# Altium schematic symbol library MF-RESISTORS.SchLib: 98 symbols (part 1 of 2)
Pins are listed as number, name and electrical type; pins without a type are passive.

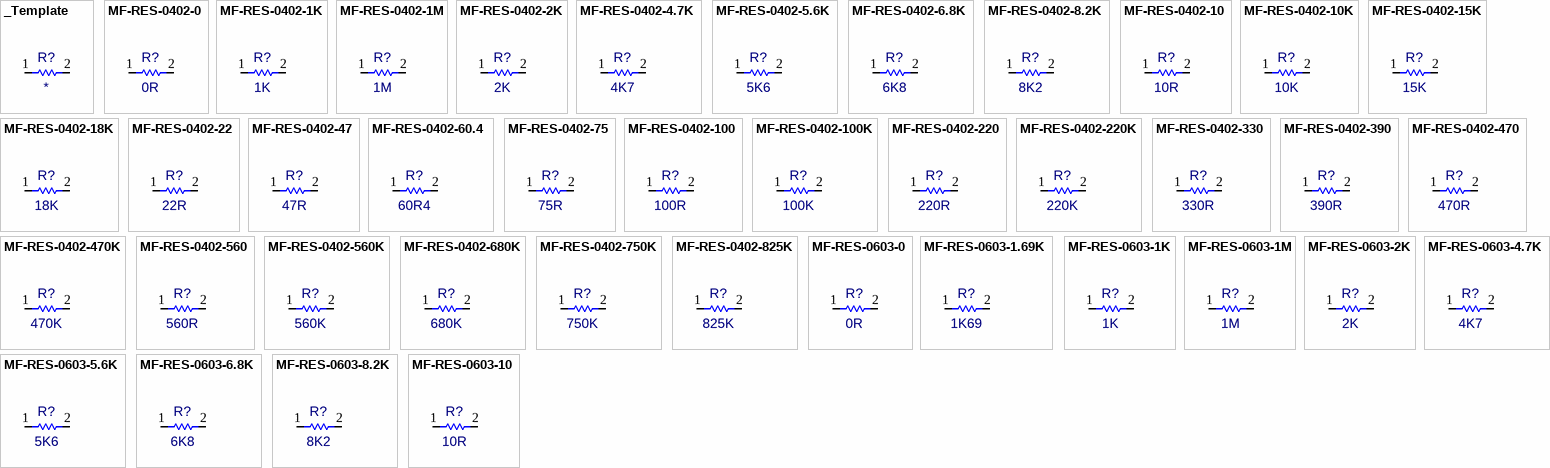
[diagram p0: symbols _Template to MF-RES-0603-10]

## _Template
designator R?
Operating Temperature Range: *; RoHS: Compliant; Package: *; ComponentLink1Description: Datasheet; ComponentLink1URL: *; ComponentLink2Description: Supplier Link 1; ComponentLink2URL: *; Supplier 1: Macrofab; Supplier Part Number 1: *; Manufacturer 1: *; Manufacturer Part Number 1: *; Value: *; Voltage Rating: *; Power Rating: *; Tolerance: *; Type: *; Resistance: *; Mount: SMD
pins: 1, 2

## MF-RES-0402-0
designator R?  Resistance: 0R  (hidden comment: MF-RES-0402-0)
Resistor Thick Film 0402 0 Ohm Jumper; Manufacturer 1: Panasonic; Value: 0; Tolerance: 5%; Operating Temperature Range: - 55 C to + 155 C; RoHS: Compliant; Package: 0402; ComponentLink1Description: Datasheet; ComponentLink1URL: https://s3.amazonaws.com/devpublic1/datasheets/Panasonic_TF_Resistors.pdf; ComponentLink2Description: Supplier Link 1; ComponentLink2URL: https://factory.macrofab.com/part/MF-RES-0402-0; Supplier 1: Macrofab; Supplier Part Number 1: MF-RES-0402-0; Manufacturer Part Number 1: *; Voltage Rating: N/A; Power Rating: N/A; Type: Thick Film Resistors General Purpose; Mount: SMD
footprint R0402 (Chip Resistor, 2-Leads, Body 1.00x0.50mm, IPC Medium Density)
pins: 1, 2

## MF-RES-0402-1K
designator R?  Resistance: 1K  (hidden comment: MF-RES-0402-1K)
Resistor Thick Film 0402 1K Ohm 5% 100mW 50V; Manufacturer 1: Panasonic; Value: 1000; Operating Temperature Range: - 55 C to + 155 C; RoHS: Compliant; Package: 0402; ComponentLink1Description: Datasheet; ComponentLink1URL: https://s3.amazonaws.com/devpublic1/datasheets/Panasonic_TF_Resistors.pdf; ComponentLink2Description: Supplier Link 1; ComponentLink2URL: https://factory.macrofab.com/part/MF-RES-0402-1K; Supplier 1: Macrofab; Supplier Part Number 1: MF-RES-0402-1K; Manufacturer Part Number 1: *; Voltage Rating: 50V; Power Rating: 100mW; Tolerance: 5%; Type: Thick Film Resistors General Purpose; Mount: SMD
footprint R0402 (Chip Resistor, 2-Leads, Body 1.00x0.50mm, IPC Medium Density)
pins: 1, 2

## MF-RES-0402-1M
designator R?  Resistance: 1M  (hidden comment: MF-RES-0402-1M)
Resistor Thick Film 0402 1M Ohm 5% 100mW 50V; Manufacturer 1: Panasonic; Value: 1000000; Operating Temperature Range: - 55 C to + 155 C; RoHS: Compliant; Package: 0402; ComponentLink1Description: Datasheet; ComponentLink1URL: https://s3.amazonaws.com/devpublic1/datasheets/Panasonic_TF_Resistors.pdf; ComponentLink2Description: Supplier Link 1; ComponentLink2URL: https://factory.macrofab.com/part/MF-RES-0402-1M; Supplier 1: Macrofab; Supplier Part Number 1: MF-RES-0402-1M; Voltage Rating: 50V; Power Rating: 100mW; Tolerance: 5%; Type: Thick Film Resistors General Purpose; Mount: SMD
footprint R0402 (Chip Resistor, 2-Leads, Body 1.00x0.50mm, IPC Medium Density)
pins: 1, 2

## MF-RES-0402-2K
designator R?  Resistance: 2K  (hidden comment: MF-RES-0402-2K)
Resistor Thick Film 0402 2K Ohm 5% 100mW 50V; Manufacturer 1: Panasonic; Value: 2000; Operating Temperature Range: - 55 C to + 155 C; RoHS: Compliant; Package: 0402; ComponentLink1Description: Datasheet; ComponentLink1URL: https://s3.amazonaws.com/devpublic1/datasheets/Panasonic_TF_Resistors.pdf; ComponentLink2Description: Supplier Link 1; ComponentLink2URL: https://factory.macrofab.com/part/MF-RES-0402-2K; Supplier 1: Macrofab; Supplier Part Number 1: MF-RES-0402-2K; Manufacturer Part Number 1: *; Voltage Rating: 50V; Power Rating: 100mW; Tolerance: 5%; Type: Thick Film Resistors General Purpose; Mount: SMD
footprint R0402 (Chip Resistor, 2-Leads, Body 1.00x0.50mm, IPC Medium Density)
pins: 1, 2

## MF-RES-0402-4.7K
designator R?  Resistance: 4K7  (hidden comment: MF-RES-0402-4.7K)
Resistor Thick Film 0402 4.7K Ohm 5% 100mW 50V; Manufacturer 1: Panasonic; Value: 4700; Operating Temperature Range: - 55 C to + 155 C; RoHS: Compliant; Package: 0402; ComponentLink1Description: Datasheet; ComponentLink1URL: https://s3.amazonaws.com/devpublic1/datasheets/Panasonic_TF_Resistors.pdf; ComponentLink2Description: Supplier Link 1; ComponentLink2URL: https://factory.macrofab.com/part/MF-RES-0402-4.7K; Supplier 1: Macrofab; Supplier Part Number 1: MF-RES-0402-4.7K; Manufacturer Part Number 1: *; Voltage Rating: 50V; Power Rating: 100mW; Tolerance: 5%; Type: Thick Film Resistors General Purpose; Mount: SMD
footprint R0402 (Chip Resistor, 2-Leads, Body 1.00x0.50mm, IPC Medium Density)
pins: 1, 2

## MF-RES-0402-5.6K
designator R?  Resistance: 5K6  (hidden comment: MF-RES-0402-5.6K)
Resistor Thick Film 0402 5.6K Ohm 5% 100mW 50V; Manufacturer 1: Panasonic; Value: 5600; Operating Temperature Range: - 55 C to + 155 C; RoHS: Compliant; Package: 0402; ComponentLink1Description: Datasheet; ComponentLink1URL: https://s3.amazonaws.com/devpublic1/datasheets/Panasonic_TF_Resistors.pdf; ComponentLink2Description: Supplier Link 1; ComponentLink2URL: https://factory.macrofab.com/part/MF-RES-0402-5.6K; Supplier 1: Macrofab; Supplier Part Number 1: MF-RES-0402-5.6K; Manufacturer Part Number 1: *; Voltage Rating: 50V; Power Rating: 100mW; Tolerance: 5%; Type: Thick Film Resistors General Purpose; Mount: SMD
footprint R0402 (Chip Resistor, 2-Leads, Body 1.00x0.50mm, IPC Medium Density)
pins: 1, 2

## MF-RES-0402-6.8K
designator R?  Resistance: 6K8  (hidden comment: MF-RES-0402-6.8K)
Resistor Thick Film 0402 6.8K Ohm 5% 100mW 50V; Manufacturer 1: Panasonic; Value: 6800; Operating Temperature Range: - 55 C to + 155 C; RoHS: Compliant; Package: 0402; ComponentLink1Description: Datasheet; ComponentLink1URL: https://s3.amazonaws.com/devpublic1/datasheets/Panasonic_TF_Resistors.pdf; ComponentLink2Description: Supplier Link 1; ComponentLink2URL: https://factory.macrofab.com/part/MF-RES-0402-6.8K; Supplier 1: Macrofab; Supplier Part Number 1: MF-RES-0402-6.8K; Manufacturer Part Number 1: *; Voltage Rating: 50V; Power Rating: 100mW; Tolerance: 5%; Type: Thick Film Resistors General Purpose; Mount: SMD
footprint R0402 (Chip Resistor, 2-Leads, Body 1.00x0.50mm, IPC Medium Density)
pins: 1, 2

## MF-RES-0402-8.2K
designator R?  Resistance: 8K2  (hidden comment: MF-RES-0402-8.2K)
Resistor Thick Film 0402 8.2K Ohm 5% 100mW 50V; Manufacturer 1: Panasonic; Value: 8200; Operating Temperature Range: - 55 C to + 155 C; RoHS: Compliant; Package: 0402; ComponentLink1Description: Datasheet; ComponentLink1URL: https://s3.amazonaws.com/devpublic1/datasheets/Panasonic_TF_Resistors.pdf; ComponentLink2Description: Supplier Link 1; ComponentLink2URL: https://factory.macrofab.com/part/MF-RES-0402-8.2K; Supplier 1: Macrofab; Supplier Part Number 1: MF-RES-0402-8.2K; Manufacturer Part Number 1: *; Voltage Rating: 50V; Power Rating: 100mW; Tolerance: 5%; Type: Thick Film Resistors General Purpose; Mount: SMD
footprint R0402 (Chip Resistor, 2-Leads, Body 1.00x0.50mm, IPC Medium Density)
pins: 1, 2

## MF-RES-0402-10
designator R?  Resistance: 10R  (hidden comment: MF-RES-0402-10)
Resistor Thick Film 0402 10 Ohm 5% 100mW 50V; Manufacturer 1: Panasonic; Value: 10; Operating Temperature Range: - 55 C to + 155 C; RoHS: Compliant; Package: 0402; ComponentLink1Description: Datasheet; ComponentLink1URL: https://s3.amazonaws.com/devpublic1/datasheets/Panasonic_TF_Resistors.pdf; ComponentLink2Description: Supplier Link 1; ComponentLink2URL: https://factory.macrofab.com/part/MF-RES-0402-10; Supplier 1: Macrofab; Supplier Part Number 1: MF-RES-0402-10; Manufacturer Part Number 1: *; Voltage Rating: 50V; Power Rating: 100mW; Tolerance: 5%; Type: Thick Film Resistors General Purpose; Mount: SMD
footprint R0402 (Chip Resistor, 2-Leads, Body 1.00x0.50mm, IPC Medium Density)
pins: 1, 2

## MF-RES-0402-10K
designator R?  Resistance: 10K  (hidden comment: MF-RES-0402-10K)
Resistor Thick Film 0402 10K Ohm 5% 100mW 50V; Manufacturer 1: Panasonic; Value: 10000; Operating Temperature Range: - 55 C to + 155 C; RoHS: Compliant; Package: 0402; ComponentLink1Description: Datasheet; ComponentLink1URL: https://s3.amazonaws.com/devpublic1/datasheets/Panasonic_TF_Resistors.pdf; ComponentLink2Description: Supplier Link 1; ComponentLink2URL: https://factory.macrofab.com/part/MF-RES-0402-10K; Supplier 1: Macrofab; Supplier Part Number 1: MF-RES-0402-10K; Manufacturer Part Number 1: *; Voltage Rating: 50V; Power Rating: 100mW; Tolerance: 5%; Type: Thick Film Resistors General Purpose; Mount: SMD
footprint R0402 (Chip Resistor, 2-Leads, Body 1.00x0.50mm, IPC Medium Density)
pins: 1, 2

## MF-RES-0402-15K
designator R?  Resistance: 15K  (hidden comment: MF-RES-0402-15K)
Resistor Thick Film 0402 15K Ohm 5% 100mW 50V; Manufacturer 1: Panasonic; Value: 15000; Operating Temperature Range: - 55 C to + 155 C; RoHS: Compliant; Package: 0402; ComponentLink1Description: Datasheet; ComponentLink1URL: https://s3.amazonaws.com/devpublic1/datasheets/Panasonic_TF_Resistors.pdf; ComponentLink2Description: Supplier Link 1; ComponentLink2URL: https://factory.macrofab.com/part/MF-RES-0402-15K; Supplier 1: Macrofab; Supplier Part Number 1: MF-RES-0402-15K; Manufacturer Part Number 1: *; Voltage Rating: 50V; Power Rating: 100mW; Tolerance: 5%; Type: Thick Film Resistors General Purpose; Mount: SMD
footprint R0402 (Chip Resistor, 2-Leads, Body 1.00x0.50mm, IPC Medium Density)
pins: 1, 2

## MF-RES-0402-18K
designator R?  Resistance: 18K  (hidden comment: MF-RES-0402-18K)
Resistor Thick Film 0402 18K Ohm 5% 100mW 50V; Manufacturer 1: Panasonic; Value: 18000; Operating Temperature Range: - 55 C to + 155 C; RoHS: Compliant; Package: 0402; ComponentLink1Description: Datasheet; ComponentLink1URL: https://s3.amazonaws.com/devpublic1/datasheets/Panasonic_TF_Resistors.pdf; ComponentLink2Description: Supplier Link 1; ComponentLink2URL: https://factory.macrofab.com/part/MF-RES-0402-18K; Supplier 1: Macrofab; Supplier Part Number 1: MF-RES-0402-18K; Manufacturer Part Number 1: *; Voltage Rating: 50V; Power Rating: 100mW; Tolerance: 5%; Type: Thick Film Resistors General Purpose; Mount: SMD
footprint R0402 (Chip Resistor, 2-Leads, Body 1.00x0.50mm, IPC Medium Density)
pins: 1, 2

## MF-RES-0402-22
designator R?  Resistance: 22R  (hidden comment: MF-RES-0402-22)
Resistor Thick Film 0402 22 Ohm 5% 100mW 50V; Manufacturer 1: Panasonic; Value: 22; Operating Temperature Range: - 55 C to + 155 C; RoHS: Compliant; Package: 0402; ComponentLink1Description: Datasheet; ComponentLink1URL: https://s3.amazonaws.com/devpublic1/datasheets/Panasonic_TF_Resistors.pdf; ComponentLink2Description: Supplier Link 1; ComponentLink2URL: https://factory.macrofab.com/part/MF-RES-0402-22; Supplier 1: Macrofab; Supplier Part Number 1: MF-RES-0402-22; Manufacturer Part Number 1: *; Voltage Rating: 50V; Power Rating: 100mW; Tolerance: 5%; Type: Thick Film Resistors General Purpose; Mount: SMD
footprint R0402 (Chip Resistor, 2-Leads, Body 1.00x0.50mm, IPC Medium Density)
pins: 1, 2

## MF-RES-0402-47
designator R?  Resistance: 47R  (hidden comment: MF-RES-0402-47)
Resistor Thick Film 0402 47 Ohm 5% 100mW 50V; Manufacturer 1: Panasonic; Value: 47; Operating Temperature Range: - 55 C to + 155 C; RoHS: Compliant; Package: 0402; ComponentLink1Description: Datasheet; ComponentLink1URL: https://s3.amazonaws.com/devpublic1/datasheets/Panasonic_TF_Resistors.pdf; ComponentLink2Description: Supplier Link 1; ComponentLink2URL: https://factory.macrofab.com/part/MF-RES-0402-47; Supplier 1: Macrofab; Supplier Part Number 1: MF-RES-0402-47; Manufacturer Part Number 1: *; Voltage Rating: 50V; Power Rating: 100mW; Tolerance: 5%; Type: Thick Film Resistors General Purpose; Mount: SMD
footprint R0402 (Chip Resistor, 2-Leads, Body 1.00x0.50mm, IPC Medium Density)
pins: 1, 2

## MF-RES-0402-60.4
designator R?  Resistance: 60R4  (hidden comment: MF-RES-0402-60.4)
Resistor Thick Film 0402 60.4 Ohm 5% 100mW 50V; Manufacturer 1: Panasonic; Value: 60.4; Operating Temperature Range: - 55 C to + 155 C; RoHS: Compliant; Package: 0402; ComponentLink1Description: Datasheet; ComponentLink1URL: https://s3.amazonaws.com/devpublic1/datasheets/Panasonic_TF_Resistors.pdf; ComponentLink2Description: Supplier Link 1; ComponentLink2URL: https://factory.macrofab.com/part/MF-RES-0402-60.4; Supplier 1: Macrofab; Supplier Part Number 1: MF-RES-0402-60.4; Manufacturer Part Number 1: *; Voltage Rating: 50V; Power Rating: 100mW; Tolerance: 5%; Type: Thick Film Resistors General Purpose; Mount: SMD
footprint R0402 (Chip Resistor, 2-Leads, Body 1.00x0.50mm, IPC Medium Density)
pins: 1, 2

## MF-RES-0402-75
designator R?  Resistance: 75R  (hidden comment: MF-RES-0402-75)
Resistor Thick Film 0402 75 Ohm 5% 100mW 50V; Manufacturer 1: Panasonic; Value: 75; Operating Temperature Range: - 55 C to + 155 C; RoHS: Compliant; Package: 0402; ComponentLink1Description: Datasheet; ComponentLink1URL: https://s3.amazonaws.com/devpublic1/datasheets/Panasonic_TF_Resistors.pdf; ComponentLink2Description: Supplier Link 1; ComponentLink2URL: https://factory.macrofab.com/part/MF-RES-0402-75; Supplier 1: Macrofab; Supplier Part Number 1: MF-RES-0402-75; Manufacturer Part Number 1: *; Voltage Rating: 50V; Power Rating: 100mW; Tolerance: 5%; Type: Thick Film Resistors General Purpose; Mount: SMD
footprint R0402 (Chip Resistor, 2-Leads, Body 1.00x0.50mm, IPC Medium Density)
pins: 1, 2

## MF-RES-0402-100
designator R?  Resistance: 100R  (hidden comment: MF-RES-0402-100)
Resistor Thick Film 0402 100 Ohm 5% 100mW 50V; Manufacturer 1: Panasonic; Value: 100; Operating Temperature Range: - 55 C to + 155 C; RoHS: Compliant; Package: 0402; ComponentLink1Description: Datasheet; ComponentLink1URL: https://s3.amazonaws.com/devpublic1/datasheets/Panasonic_TF_Resistors.pdf; ComponentLink2Description: Supplier Link 1; ComponentLink2URL: https://factory.macrofab.com/part/MF-RES-0402-100; Supplier 1: Macrofab; Supplier Part Number 1: MF-RES-0402-100; Manufacturer Part Number 1: *; Voltage Rating: 50V; Power Rating: 100mW; Tolerance: 5%; Type: Thick Film Resistors General Purpose; Mount: SMD
footprint R0402 (Chip Resistor, 2-Leads, Body 1.00x0.50mm, IPC Medium Density)
pins: 1, 2

## MF-RES-0402-100K
designator R?  Resistance: 100K  (hidden comment: MF-RES-0402-100K)
Resistor Thick Film 0402 100K Ohm 5% 100mW 50V; Manufacturer 1: Panasonic; Value: 100000; Operating Temperature Range: - 55 C to + 155 C; RoHS: Compliant; Package: 0402; ComponentLink1Description: Datasheet; ComponentLink1URL: https://s3.amazonaws.com/devpublic1/datasheets/Panasonic_TF_Resistors.pdf; ComponentLink2Description: Supplier Link 1; ComponentLink2URL: https://factory.macrofab.com/part/MF-RES-0402-100K; Supplier 1: Macrofab; Supplier Part Number 1: MF-RES-0402-100K; Manufacturer Part Number 1: *; Voltage Rating: 50V; Power Rating: 100mW; Tolerance: 5%; Type: Thick Film Resistors General Purpose; Mount: SMD
footprint R0402 (Chip Resistor, 2-Leads, Body 1.00x0.50mm, IPC Medium Density)
pins: 1, 2

## MF-RES-0402-220
designator R?  Resistance: 220R  (hidden comment: MF-RES-0402-220)
Resistor Thick Film 0402 220 Ohm 5% 100mW 50V; Manufacturer 1: Panasonic; Value: 220; Operating Temperature Range: - 55 C to + 155 C; RoHS: Compliant; Package: 0402; ComponentLink1Description: Datasheet; ComponentLink1URL: https://s3.amazonaws.com/devpublic1/datasheets/Panasonic_TF_Resistors.pdf; ComponentLink2Description: Supplier Link 1; ComponentLink2URL: https://factory.macrofab.com/part/MF-RES-0402-220; Supplier 1: Macrofab; Supplier Part Number 1: MF-RES-0402-220; Manufacturer Part Number 1: *; Voltage Rating: 50V; Power Rating: 100mW; Tolerance: 5%; Type: Thick Film Resistors General Purpose; Mount: SMD
footprint R0402 (Chip Resistor, 2-Leads, Body 1.00x0.50mm, IPC Medium Density)
pins: 1, 2

## MF-RES-0402-220K
designator R?  Resistance: 220K  (hidden comment: MF-RES-0402-220K)
Resistor Thick Film 0402 220K Ohm 5% 100mW 50V; Manufacturer 1: Panasonic; Value: 220000; Operating Temperature Range: - 55 C to + 155 C; RoHS: Compliant; Package: 0402; ComponentLink1Description: Datasheet; ComponentLink1URL: https://s3.amazonaws.com/devpublic1/datasheets/Panasonic_TF_Resistors.pdf; ComponentLink2Description: Supplier Link 1; ComponentLink2URL: https://factory.macrofab.com/part/MF-RES-0402-220K; Supplier 1: Macrofab; Supplier Part Number 1: MF-RES-0402-220K; Manufacturer Part Number 1: *; Voltage Rating: 50V; Power Rating: 100mW; Tolerance: 5%; Type: Thick Film Resistors General Purpose; Mount: SMD
footprint R0402 (Chip Resistor, 2-Leads, Body 1.00x0.50mm, IPC Medium Density)
pins: 1, 2

## MF-RES-0402-330
designator R?  Resistance: 330R  (hidden comment: MF-RES-0402-330)
Resistor Thick Film 0402 330 Ohm 5% 100mW 50V; Manufacturer 1: Panasonic; Value: 330; Operating Temperature Range: - 55 C to + 155 C; RoHS: Compliant; Package: 0402; ComponentLink1Description: Datasheet; ComponentLink1URL: https://s3.amazonaws.com/devpublic1/datasheets/Panasonic_TF_Resistors.pdf; ComponentLink2Description: Supplier Link 1; ComponentLink2URL: https://factory.macrofab.com/part/MF-RES-0402-330; Supplier 1: Macrofab; Supplier Part Number 1: MF-RES-0402-330; Manufacturer Part Number 1: *; Voltage Rating: 50V; Power Rating: 100mW; Tolerance: 5%; Type: Thick Film Resistors General Purpose; Mount: SMD
footprint R0402 (Chip Resistor, 2-Leads, Body 1.00x0.50mm, IPC Medium Density)
pins: 1, 2

## MF-RES-0402-390
designator R?  Resistance: 390R  (hidden comment: MF-RES-0402-390)
Resistor Thick Film 0402 390 Ohm 5% 100mW 50V; Manufacturer 1: Panasonic; Value: 390; Operating Temperature Range: - 55 C to + 155 C; RoHS: Compliant; Package: 0402; ComponentLink1Description: Datasheet; ComponentLink1URL: https://s3.amazonaws.com/devpublic1/datasheets/Panasonic_TF_Resistors.pdf; ComponentLink2Description: Supplier Link 1; ComponentLink2URL: https://factory.macrofab.com/part/MF-RES-0402-390; Supplier 1: Macrofab; Supplier Part Number 1: MF-RES-0402-390; Manufacturer Part Number 1: *; Voltage Rating: 50V; Power Rating: 100mW; Tolerance: 5%; Type: Thick Film Resistors General Purpose; Mount: SMD
footprint R0402 (Chip Resistor, 2-Leads, Body 1.00x0.50mm, IPC Medium Density)
pins: 1, 2

## MF-RES-0402-470
designator R?  Resistance: 470R  (hidden comment: MF-RES-0402-470)
Resistor Thick Film 0402 470 Ohm 5% 100mW 50V; Manufacturer 1: Panasonic; Value: 470; Operating Temperature Range: - 55 C to + 155 C; RoHS: Compliant; Package: 0402; ComponentLink1Description: Datasheet; ComponentLink1URL: https://s3.amazonaws.com/devpublic1/datasheets/Panasonic_TF_Resistors.pdf; ComponentLink2Description: Supplier Link 1; ComponentLink2URL: https://factory.macrofab.com/part/MF-RES-0402-470; Supplier 1: Macrofab; Supplier Part Number 1: MF-RES-0402-470; Manufacturer Part Number 1: *; Voltage Rating: 50V; Power Rating: 100mW; Tolerance: 5%; Type: Thick Film Resistors General Purpose; Mount: SMD
footprint R0402 (Chip Resistor, 2-Leads, Body 1.00x0.50mm, IPC Medium Density)
pins: 1, 2

## MF-RES-0402-470K
designator R?  Resistance: 470K  (hidden comment: MF-RES-0402-470K)
Resistor Thick Film 0402 470K Ohm 5% 100mW 50V; Manufacturer 1: Panasonic; Value: 470000; Operating Temperature Range: - 55 C to + 155 C; RoHS: Compliant; Package: 0402; ComponentLink1Description: Datasheet; ComponentLink1URL: https://s3.amazonaws.com/devpublic1/datasheets/Panasonic_TF_Resistors.pdf; ComponentLink2Description: Supplier Link 1; ComponentLink2URL: https://factory.macrofab.com/part/MF-RES-0402-470K; Supplier 1: Macrofab; Supplier Part Number 1: MF-RES-0402-470K; Manufacturer Part Number 1: *; Voltage Rating: 50V; Power Rating: 100mW; Tolerance: 5%; Type: Thick Film Resistors General Purpose; Mount: SMD
footprint R0402 (Chip Resistor, 2-Leads, Body 1.00x0.50mm, IPC Medium Density)
pins: 1, 2

## MF-RES-0402-560
designator R?  Resistance: 560R  (hidden comment: MF-RES-0402-560)
Resistor Thick Film 0402 560 Ohm 5% 100mW 50V; Manufacturer 1: Panasonic; Value: 560; Operating Temperature Range: - 55 C to + 155 C; RoHS: Compliant; Package: 0402; ComponentLink1Description: Datasheet; ComponentLink1URL: https://s3.amazonaws.com/devpublic1/datasheets/Panasonic_TF_Resistors.pdf; ComponentLink2Description: Supplier Link 1; ComponentLink2URL: https://factory.macrofab.com/part/MF-RES-0402-560; Supplier 1: Macrofab; Supplier Part Number 1: MF-RES-0402-560; Manufacturer Part Number 1: *; Voltage Rating: 50V; Power Rating: 100mW; Tolerance: 5%; Type: Thick Film Resistors General Purpose; Mount: SMD
footprint R0402 (Chip Resistor, 2-Leads, Body 1.00x0.50mm, IPC Medium Density)
pins: 1, 2

## MF-RES-0402-560K
designator R?  Resistance: 560K  (hidden comment: MF-RES-0402-560K)
Resistor Thick Film 0402 560K Ohm 5% 100mW 50V; Manufacturer 1: Panasonic; Value: 560000; Operating Temperature Range: - 55 C to + 155 C; RoHS: Compliant; Package: 0402; ComponentLink1Description: Datasheet; ComponentLink1URL: https://s3.amazonaws.com/devpublic1/datasheets/Panasonic_TF_Resistors.pdf; ComponentLink2Description: Supplier Link 1; ComponentLink2URL: https://factory.macrofab.com/part/MF-RES-0402-560K; Supplier 1: Macrofab; Supplier Part Number 1: MF-RES-0402-560K; Manufacturer Part Number 1: *; Voltage Rating: 50V; Power Rating: 100mW; Tolerance: 5%; Type: Thick Film Resistors General Purpose; Mount: SMD
footprint R0402 (Chip Resistor, 2-Leads, Body 1.00x0.50mm, IPC Medium Density)
pins: 1, 2

## MF-RES-0402-680K
designator R?  Resistance: 680K  (hidden comment: MF-RES-0402-680K)
Resistor Thick Film 0402 680K Ohm 5% 100mW 50V; Manufacturer 1: Panasonic; Value: 680000; Operating Temperature Range: - 55 C to + 155 C; RoHS: Compliant; Package: 0402; ComponentLink1Description: Datasheet; ComponentLink1URL: https://s3.amazonaws.com/devpublic1/datasheets/Panasonic_TF_Resistors.pdf; ComponentLink2Description: Supplier Link 1; ComponentLink2URL: https://factory.macrofab.com/part/MF-RES-0402-680K; Supplier 1: Macrofab; Supplier Part Number 1: MF-RES-0402-680K; Manufacturer Part Number 1: *; Voltage Rating: 50V; Power Rating: 100mW; Tolerance: 5%; Type: Thick Film Resistors General Purpose; Mount: SMD
footprint R0402 (Chip Resistor, 2-Leads, Body 1.00x0.50mm, IPC Medium Density)
pins: 1, 2

## MF-RES-0402-750K
designator R?  Resistance: 750K  (hidden comment: MF-RES-0402-750K)
Resistor Thick Film 0402 750K Ohm 5% 100mW 50V; Manufacturer 1: Panasonic; Value: 750000; Operating Temperature Range: - 55 C to + 155 C; RoHS: Compliant; Package: 0402; ComponentLink1Description: Datasheet; ComponentLink1URL: https://s3.amazonaws.com/devpublic1/datasheets/Panasonic_TF_Resistors.pdf; ComponentLink2Description: Supplier Link 1; ComponentLink2URL: https://factory.macrofab.com/part/MF-RES-0402-750K; Supplier 1: Macrofab; Supplier Part Number 1: MF-RES-0402-750K; Manufacturer Part Number 1: *; Voltage Rating: 50V; Power Rating: 100mW; Tolerance: 5%; Type: Thick Film Resistors General Purpose; Mount: SMD
footprint R0402 (Chip Resistor, 2-Leads, Body 1.00x0.50mm, IPC Medium Density)
pins: 1, 2

## MF-RES-0402-825K
designator R?  Resistance: 825K  (hidden comment: MF-RES-0402-825K)
Resistor Thick Film 0402 825K Ohm 1% 100mW 50V; Manufacturer 1: Panasonic; Value: 825000; Tolerance: 5%; Operating Temperature Range: - 55 C to + 155 C; RoHS: Compliant; Package: 0402; ComponentLink1Description: Datasheet; ComponentLink1URL: https://s3.amazonaws.com/devpublic1/datasheets/Panasonic_PTF_Resistors.pdf; ComponentLink2Description: Supplier Link 1; ComponentLink2URL: https://factory.macrofab.com/part/MF-RES-0402-825K; Supplier 1: Macrofab; Supplier Part Number 1: MF-RES-0402-825K; Manufacturer Part Number 1: *; Voltage Rating: 50V; Power Rating: 100mW; Type: Thick Film Resistors General Purpose; Mount: SMD
footprint R0402 (Chip Resistor, 2-Leads, Body 1.00x0.50mm, IPC Medium Density)
pins: 1, 2

## MF-RES-0603-0
designator R?  Resistance: 0R  (hidden comment: MF-RES-0603-0)
Resistor Thick Film 0603 0 Ohm Jumper; Manufacturer 1: Panasonic; Value: 0; Operating Temperature Range: - 55 C to + 155 C; RoHS: Compliant; Package: 0603; ComponentLink1Description: Datasheet; ComponentLink1URL: https://s3.amazonaws.com/devpublic1/datasheets/Panasonic_TF_Resistors.pdf; ComponentLink2Description: Supplier Link 1; ComponentLink2URL: https://factory.macrofab.com/part/MF-RES-0603-0; Supplier 1: Macrofab; Supplier Part Number 1: MF-RES-0603-0; Manufacturer Part Number 1: *; Voltage Rating: N/A; Power Rating: N/A; Tolerance: N/A; Type: Thick Film Resistors General Purpose; Mount: SMD
footprint R0603 (Chip Resistor, 2-Leads, Body 1.60x0.85mm, IPC Medium Density)
pins: 1, 2

## MF-RES-0603-1.69K
designator R?  Resistance: 1K69  (hidden comment: MF-RES-0603-1.69K)
Resistor Thick Film 0603 1.69K Ohm 1% 100mW 75V; Manufacturer 1: Panasonic; Value: 1690; Operating Temperature Range: - 55 C to + 155 C; RoHS: Compliant; Package: 0603; ComponentLink1Description: Datasheet; ComponentLink1URL: https://s3.amazonaws.com/devpublic1/datasheets/Panasonic_TF_Resistors.pdf; ComponentLink2Description: Supplier Link 1; ComponentLink2URL: https://factory.macrofab.com/part/MF-RES-0603-1.69K; Supplier 1: Macrofab; Supplier Part Number 1: MF-RES-0603-1.69K; Manufacturer Part Number 1: *; Voltage Rating: 75V; Power Rating: 100mW; Tolerance: 1%; Type: Thick Film Resistors General Purpose; Mount: SMD
footprint R0603 (Chip Resistor, 2-Leads, Body 1.60x0.85mm, IPC Medium Density)
pins: 1, 2

## MF-RES-0603-1K
designator R?  Resistance: 1K  (hidden comment: MF-RES-0603-1K)
Resistor Thick Film 0603 1K Ohm 5% 100mW 75V; Manufacturer 1: Panasonic; Value: 1000; Operating Temperature Range: - 55 C to + 155 C; RoHS: Compliant; Package: 0603; ComponentLink1Description: Datasheet; ComponentLink1URL: https://s3.amazonaws.com/devpublic1/datasheets/Panasonic_TF_Resistors.pdf; ComponentLink2Description: Supplier Link 1; ComponentLink2URL: https://factory.macrofab.com/part/MF-RES-0603-1K; Supplier 1: Macrofab; Supplier Part Number 1: MF-RES-0603-1K; Manufacturer Part Number 1: *; Voltage Rating: 75V; Power Rating: 100mW; Tolerance: 5%; Type: Thick Film Resistors General Purpose; Mount: SMD
footprint R0603 (Chip Resistor, 2-Leads, Body 1.60x0.85mm, IPC Medium Density)
pins: 1, 2

## MF-RES-0603-1M
designator R?  Resistance: 1M  (hidden comment: MF-RES-0603-1M)
Resistor Thick Film 0603 1M Ohm 5% 100mW 75V; Manufacturer 1: Panasonic; Value: 1000000; Operating Temperature Range: - 55 C to + 155 C; RoHS: Compliant; Package: 0603; ComponentLink1Description: Datasheet; ComponentLink1URL: https://s3.amazonaws.com/devpublic1/datasheets/Panasonic_TF_Resistors.pdf; ComponentLink2Description: Supplier Link 1; ComponentLink2URL: https://factory.macrofab.com/part/MF-RES-0603-1M; Supplier 1: Macrofab; Supplier Part Number 1: MF-RES-0603-1M; Manufacturer Part Number 1: *; Voltage Rating: 75V; Power Rating: 100mW; Tolerance: 5%; Type: Thick Film Resistors General Purpose; Mount: SMD
footprint R0603 (Chip Resistor, 2-Leads, Body 1.60x0.85mm, IPC Medium Density)
pins: 1, 2

## MF-RES-0603-2K
designator R?  Resistance: 2K  (hidden comment: MF-RES-0603-2K)
Resistor Thick Film 0603 2K Ohm 1% 1/10W 50V; Manufacturer 1: Panasonic; Value: 2000; Voltage Rating: 75V; Power Rating: 100mW; Tolerance: 5%; Operating Temperature Range: - 55 C to + 155 C; RoHS: Compliant; Package: 0603; ComponentLink1Description: Datasheet; ComponentLink1URL: https://s3.amazonaws.com/devpublic1/datasheets/Panasonic_TF_Resistors.pdf; ComponentLink2Description: Supplier Link 1; ComponentLink2URL: https://factory.macrofab.com/part/MF-RES-0603-2K; Supplier 1: Macrofab; Supplier Part Number 1: MF-RES-0603-2K; Manufacturer Part Number 1: *; Type: Thick Film Resistors General Purpose; Mount: SMD
footprint R0603 (Chip Resistor, 2-Leads, Body 1.60x0.85mm, IPC Medium Density)
pins: 1, 2

## MF-RES-0603-4.7K
designator R?  Resistance: 4K7  (hidden comment: MF-RES-0603-4.7K)
Resistor Thick Film 0603 4.7K Ohm 5% 100mW 75V; Manufacturer 1: Panasonic; Value: 4700; Operating Temperature Range: - 55 C to + 155 C; RoHS: Compliant; Package: 0603; ComponentLink1Description: Datasheet; ComponentLink1URL: https://s3.amazonaws.com/devpublic1/datasheets/Panasonic_TF_Resistors.pdf; ComponentLink2Description: Supplier Link 1; ComponentLink2URL: https://factory.macrofab.com/part/MF-RES-0603-4.7K; Supplier 1: Macrofab; Supplier Part Number 1: MF-RES-0603-4.7K; Manufacturer Part Number 1: *; Voltage Rating: 75V; Power Rating: 100mW; Tolerance: 5%; Type: Thick Film Resistors General Purpose; Mount: SMD
footprint R0603 (Chip Resistor, 2-Leads, Body 1.60x0.85mm, IPC Medium Density)
pins: 1, 2

## MF-RES-0603-5.6K
designator R?  Resistance: 5K6  (hidden comment: MF-RES-0603-5.6K)
Resistor Thick Film 0603 5.6K Ohm 5% 100mW 75V; Manufacturer 1: Panasonic; Value: 5600; Operating Temperature Range: - 55 C to + 155 C; RoHS: Compliant; Package: 0603; ComponentLink1Description: Datasheet; ComponentLink1URL: https://s3.amazonaws.com/devpublic1/datasheets/Panasonic_TF_Resistors.pdf; ComponentLink2Description: Supplier Link 1; ComponentLink2URL: https://factory.macrofab.com/part/MF-RES-0603-5.6K; Supplier 1: Macrofab; Supplier Part Number 1: MF-RES-0603-5.6K; Manufacturer Part Number 1: *; Voltage Rating: 75V; Power Rating: 100mW; Tolerance: 5%; Type: Thick Film Resistors General Purpose; Mount: SMD
footprint R0603 (Chip Resistor, 2-Leads, Body 1.60x0.85mm, IPC Medium Density)
pins: 1, 2

## MF-RES-0603-6.8K
designator R?  Resistance: 6K8  (hidden comment: MF-RES-0603-6.8K)
Resistor Thick Film 0603 6.8K Ohm 5% 100mW 75V; Manufacturer 1: Panasonic; Value: 6800; Operating Temperature Range: - 55 C to + 155 C; RoHS: Compliant; Package: 0603; ComponentLink1Description: Datasheet; ComponentLink1URL: https://s3.amazonaws.com/devpublic1/datasheets/Panasonic_TF_Resistors.pdf; ComponentLink2Description: Supplier Link 1; ComponentLink2URL: https://factory.macrofab.com/part/MF-RES-0603-6.8K; Supplier 1: Macrofab; Supplier Part Number 1: MF-RES-0603-6.8K; Manufacturer Part Number 1: *; Voltage Rating: 75V; Power Rating: 100mW; Tolerance: 5%; Type: Thick Film Resistors General Purpose; Mount: SMD
footprint R0603 (Chip Resistor, 2-Leads, Body 1.60x0.85mm, IPC Medium Density)
pins: 1, 2

## MF-RES-0603-8.2K
designator R?  Resistance: 8K2  (hidden comment: MF-RES-0603-8.2K)
Resistor Thick Film 0603 8.2K Ohm 5% 100mW 75V; Manufacturer 1: Panasonic; Value: 8200; Operating Temperature Range: - 55 C to + 155 C; RoHS: Compliant; Package: 0603; ComponentLink1Description: Datasheet; ComponentLink1URL: https://s3.amazonaws.com/devpublic1/datasheets/Panasonic_TF_Resistors.pdf; ComponentLink2Description: Supplier Link 1; ComponentLink2URL: https://factory.macrofab.com/part/MF-RES-0603-8.2K; Supplier 1: Macrofab; Supplier Part Number 1: MF-RES-0603-8.2K; Manufacturer Part Number 1: *; Voltage Rating: 75V; Power Rating: 100mW; Tolerance: 5%; Type: Thick Film Resistors General Purpose; Mount: SMD
footprint R0603 (Chip Resistor, 2-Leads, Body 1.60x0.85mm, IPC Medium Density)
pins: 1, 2

## MF-RES-0603-10
designator R?  Resistance: 10R  (hidden comment: MF-RES-0603-10)
Resistor Thick Film 0603 10 Ohm 5% 100mW 75V; Manufacturer 1: Panasonic; Value: 10; Operating Temperature Range: - 55 C to + 155 C; RoHS: Compliant; Package: 0603; ComponentLink1Description: Datasheet; ComponentLink1URL: https://s3.amazonaws.com/devpublic1/datasheets/Panasonic_TF_Resistors.pdf; ComponentLink2Description: Supplier Link 1; ComponentLink2URL: https://factory.macrofab.com/part/MF-RES-0603-10; Supplier 1: Macrofab; Supplier Part Number 1: MF-RES-0603-10; Manufacturer Part Number 1: *; Voltage Rating: 75V; Power Rating: 100mW; Tolerance: 5%; Type: Thick Film Resistors General Purpose; Mount: SMD
footprint R0603 (Chip Resistor, 2-Leads, Body 1.60x0.85mm, IPC Medium Density)
pins: 1, 2

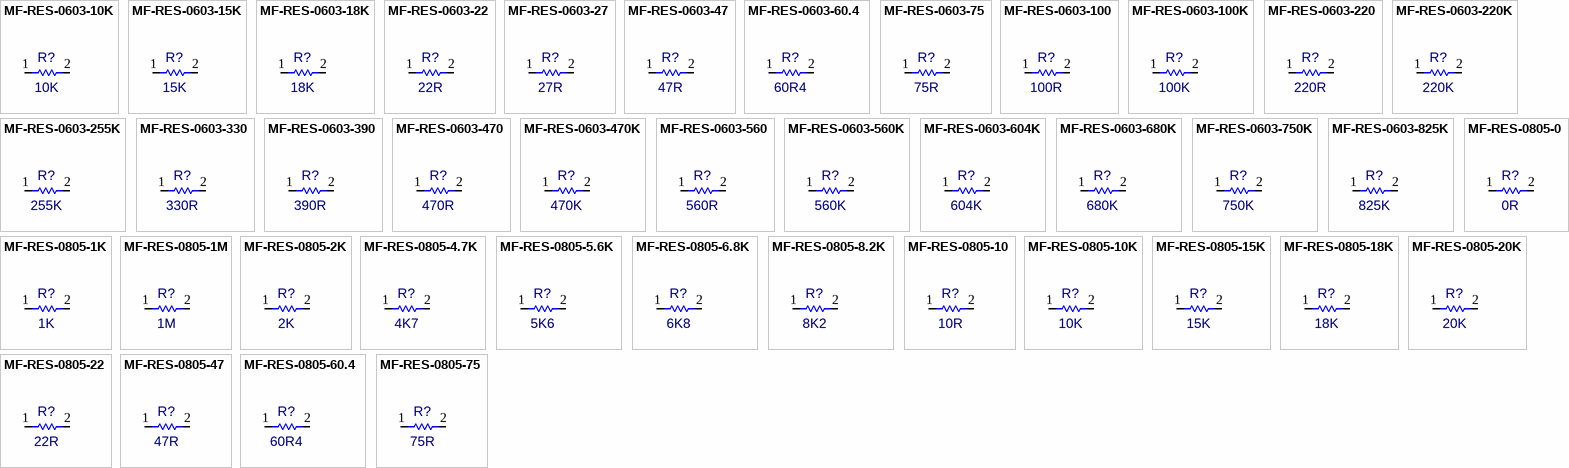
[diagram p1: symbols MF-RES-0603-10K to MF-RES-0805-75]

## MF-RES-0603-10K
designator R?  Resistance: 10K  (hidden comment: MF-RES-0603-10K)
Resistor Thick Film 0603 10K Ohm 5% 100mW 75V; Manufacturer 1: Panasonic; Value: 10000; Operating Temperature Range: - 55 C to + 155 C; RoHS: Compliant; Package: 0603; ComponentLink1Description: Datasheet; ComponentLink1URL: https://s3.amazonaws.com/devpublic1/datasheets/Panasonic_TF_Resistors.pdf; ComponentLink2Description: Supplier Link 1; ComponentLink2URL: https://factory.macrofab.com/part/MF-RES-0603-10K; Supplier 1: Macrofab; Supplier Part Number 1: MF-RES-0603-10K; Manufacturer Part Number 1: *; Voltage Rating: 75V; Power Rating: 100mW; Tolerance: 5%; Type: Thick Film Resistors General Purpose; Mount: SMD
footprint R0603 (Chip Resistor, 2-Leads, Body 1.60x0.85mm, IPC Medium Density)
pins: 1, 2

## MF-RES-0603-15K
designator R?  Resistance: 15K  (hidden comment: MF-RES-0603-15K)
Resistor Thick Film 0603 15K Ohm 5% 100mW 75V; Manufacturer 1: Panasonic; Value: 15000; Operating Temperature Range: - 55 C to + 155 C; RoHS: Compliant; Package: 0603; ComponentLink1Description: Datasheet; ComponentLink1URL: https://s3.amazonaws.com/devpublic1/datasheets/Panasonic_TF_Resistors.pdf; ComponentLink2Description: Supplier Link 1; ComponentLink2URL: https://factory.macrofab.com/part/MF-RES-0603-15K; Supplier 1: Macrofab; Supplier Part Number 1: MF-RES-0603-15K; Manufacturer Part Number 1: *; Voltage Rating: 75V; Power Rating: 100mW; Tolerance: 5%; Type: Thick Film Resistors General Purpose; Mount: SMD
footprint R0603 (Chip Resistor, 2-Leads, Body 1.60x0.85mm, IPC Medium Density)
pins: 1, 2

## MF-RES-0603-18K
designator R?  Resistance: 18K  (hidden comment: MF-RES-0603-18K)
Resistor Thick Film 0603 18K Ohm 5% 100mW 75V; Manufacturer 1: Panasonic; Value: 18000; Operating Temperature Range: - 55 C to + 155 C; RoHS: Compliant; Package: 0603; ComponentLink1Description: Datasheet; ComponentLink1URL: https://s3.amazonaws.com/devpublic1/datasheets/Panasonic_TF_Resistors.pdf; ComponentLink2Description: Supplier Link 1; ComponentLink2URL: https://factory.macrofab.com/part/MF-RES-0603-18K; Supplier 1: Macrofab; Supplier Part Number 1: MF-RES-0603-18K; Manufacturer Part Number 1: *; Voltage Rating: 75V; Power Rating: 100mW; Tolerance: 5%; Type: Thick Film Resistors General Purpose; Mount: SMD
footprint R0603 (Chip Resistor, 2-Leads, Body 1.60x0.85mm, IPC Medium Density)
pins: 1, 2

## MF-RES-0603-22
designator R?  Resistance: 22R  (hidden comment: MF-RES-0603-22)
Resistor Thick Film 0603 22 Ohm 5% 100mW 75V; Manufacturer 1: Panasonic; Value: 22; Operating Temperature Range: - 55 C to + 155 C; RoHS: Compliant; Package: 0603; ComponentLink1Description: Datasheet; ComponentLink1URL: https://s3.amazonaws.com/devpublic1/datasheets/Panasonic_TF_Resistors.pdf; ComponentLink2Description: Supplier Link 1; ComponentLink2URL: https://factory.macrofab.com/part/MF-RES-0603-22; Supplier 1: Macrofab; Supplier Part Number 1: MF-RES-0603-22; Manufacturer Part Number 1: *; Voltage Rating: 75V; Power Rating: 100mW; Tolerance: 5%; Type: Thick Film Resistors General Purpose; Mount: SMD
footprint R0603 (Chip Resistor, 2-Leads, Body 1.60x0.85mm, IPC Medium Density)
pins: 1, 2

## MF-RES-0603-27
designator R?  Resistance: 27R  (hidden comment: MF-RES-0603-27)
Resistor Thick Film 0603 27 Ohm 1% 100mW 75V; Manufacturer 1: Panasonic; Value: 27; Operating Temperature Range: - 55 C to + 155 C; RoHS: Compliant; Package: 0603; ComponentLink1Description: Datasheet; ComponentLink1URL: https://s3.amazonaws.com/devpublic1/datasheets/Panasonic_TF_Resistors.pdf; ComponentLink2Description: Supplier Link 1; ComponentLink2URL: https://factory.macrofab.com/part/MF-RES-0603-27; Supplier 1: Macrofab; Supplier Part Number 1: MF-RES-0603-27; Manufacturer Part Number 1: *; Voltage Rating: 75V; Power Rating: 100mW; Tolerance: 1%; Type: Thick Film Resistors General Purpose; Mount: SMD
footprint R0603 (Chip Resistor, 2-Leads, Body 1.60x0.85mm, IPC Medium Density)
pins: 1, 2

## MF-RES-0603-47
designator R?  Resistance: 47R  (hidden comment: MF-RES-0603-47)
Resistor Thick Film 0603 47 Ohm 5% 100mW 75V; Manufacturer 1: Panasonic; Value: 47; Operating Temperature Range: - 55 C to + 155 C; RoHS: Compliant; Package: 0603; ComponentLink1Description: Datasheet; ComponentLink1URL: https://s3.amazonaws.com/devpublic1/datasheets/Panasonic_TF_Resistors.pdf; ComponentLink2Description: Supplier Link 1; ComponentLink2URL: https://factory.macrofab.com/part/MF-RES-0603-47; Supplier 1: Macrofab; Supplier Part Number 1: MF-RES-0603-47; Manufacturer Part Number 1: *; Voltage Rating: 75V; Power Rating: 100mW; Tolerance: 5%; Type: Thick Film Resistors General Purpose; Mount: SMD
footprint R0603 (Chip Resistor, 2-Leads, Body 1.60x0.85mm, IPC Medium Density)
pins: 1, 2

## MF-RES-0603-60.4
designator R?  Resistance: 60R4  (hidden comment: MF-RES-0603-60.4)
Resistor Thick Film 0603 60.4 Ohm 1% 100mW 50V; Manufacturer 1: Panasonic; Value: 60.4; Operating Temperature Range: - 55 C to + 155 C; RoHS: Compliant; Package: 0603; ComponentLink1Description: Datasheet; ComponentLink1URL: https://s3.amazonaws.com/devpublic1/datasheets/Panasonic_TF_Resistors.pdf; ComponentLink2Description: Supplier Link 1; ComponentLink2URL: https://factory.macrofab.com/part/MF-RES-0603-60.4; Supplier 1: Macrofab; Supplier Part Number 1: MF-RES-0603-60.4; Manufacturer Part Number 1: *; Voltage Rating: 50V; Power Rating: 100mW; Tolerance: 1%; Type: Thick Film Resistors General Purpose; Mount: SMD
footprint R0603 (Chip Resistor, 2-Leads, Body 1.60x0.85mm, IPC Medium Density)
pins: 1, 2

## MF-RES-0603-75
designator R?  Resistance: 75R  (hidden comment: MF-RES-0603-75)
Resistor Thick Film 0603 75 Ohm 5% 100mW 75V; Manufacturer 1: Panasonic; Value: 75; Operating Temperature Range: - 55 C to + 155 C; RoHS: Compliant; Package: 0603; ComponentLink1Description: Datasheet; ComponentLink1URL: https://s3.amazonaws.com/devpublic1/datasheets/Panasonic_TF_Resistors.pdf; ComponentLink2Description: Supplier Link 1; ComponentLink2URL: https://factory.macrofab.com/part/MF-RES-0603-75; Supplier 1: Macrofab; Supplier Part Number 1: MF-RES-0603-75; Manufacturer Part Number 1: *; Voltage Rating: 75V; Power Rating: 100mW; Tolerance: 5%; Type: Thick Film Resistors General Purpose; Mount: SMD
footprint R0603 (Chip Resistor, 2-Leads, Body 1.60x0.85mm, IPC Medium Density)
pins: 1, 2

## MF-RES-0603-100
designator R?  Resistance: 100R  (hidden comment: MF-RES-0603-100)
Resistor Thick Film 0603 100 Ohm 5% 100mW 75V; Manufacturer 1: Panasonic; Value: 100; Operating Temperature Range: - 55 C to + 155 C; RoHS: Compliant; Package: 0603; ComponentLink1Description: Datasheet; ComponentLink1URL: https://s3.amazonaws.com/devpublic1/datasheets/Panasonic_TF_Resistors.pdf; ComponentLink2Description: Supplier Link 1; ComponentLink2URL: https://factory.macrofab.com/part/MF-RES-0603-100; Supplier 1: Macrofab; Supplier Part Number 1: MF-RES-0603-100; Manufacturer Part Number 1: *; Voltage Rating: 75V; Power Rating: 100mW; Tolerance: 5%; Type: Thick Film Resistors General Purpose; Mount: SMD
footprint R0603 (Chip Resistor, 2-Leads, Body 1.60x0.85mm, IPC Medium Density)
pins: 1, 2

## MF-RES-0603-100K
designator R?  Resistance: 100K  (hidden comment: MF-RES-0603-100K)
Resistor Thick Film 0603 100K Ohm 5% 100mW 75V; Manufacturer 1: Panasonic; Value: 100000; Operating Temperature Range: - 55 C to + 155 C; RoHS: Compliant; Package: 0603; ComponentLink1Description: Datasheet; ComponentLink1URL: https://s3.amazonaws.com/devpublic1/datasheets/Panasonic_TF_Resistors.pdf; ComponentLink2Description: Supplier Link 1; ComponentLink2URL: https://factory.macrofab.com/part/MF-RES-0603-100K; Supplier 1: Macrofab; Supplier Part Number 1: MF-RES-0603-100K; Manufacturer Part Number 1: *; Voltage Rating: 75V; Power Rating: 100mW; Tolerance: 5%; Type: Thick Film Resistors General Purpose; Mount: SMD
footprint R0603 (Chip Resistor, 2-Leads, Body 1.60x0.85mm, IPC Medium Density)
pins: 1, 2

## MF-RES-0603-220
designator R?  Resistance: 220R  (hidden comment: MF-RES-0603-220)
Resistor Thick Film 0603 220 Ohm 5% 100mW 75V; Manufacturer 1: Panasonic; Value: 220; Operating Temperature Range: - 55 C to + 155 C; RoHS: Compliant; Package: 0603; ComponentLink1Description: Datasheet; ComponentLink1URL: https://s3.amazonaws.com/devpublic1/datasheets/Panasonic_TF_Resistors.pdf; ComponentLink2Description: Supplier Link 1; ComponentLink2URL: https://factory.macrofab.com/part/MF-RES-0603-220; Supplier 1: Macrofab; Supplier Part Number 1: MF-RES-0603-220; Manufacturer Part Number 1: *; Voltage Rating: 75V; Power Rating: 100mW; Tolerance: 5%; Type: Thick Film Resistors General Purpose; Mount: SMD
footprint R0603 (Chip Resistor, 2-Leads, Body 1.60x0.85mm, IPC Medium Density)
pins: 1, 2

## MF-RES-0603-220K
designator R?  Resistance: 220K  (hidden comment: MF-RES-0603-220K)
Resistor Thick Film 0603 220K Ohm 5% 100mW 75V; Manufacturer 1: Panasonic; Value: 220000; Operating Temperature Range: - 55 C to + 155 C; RoHS: Compliant; Package: 0603; ComponentLink1Description: Datasheet; ComponentLink1URL: https://s3.amazonaws.com/devpublic1/datasheets/Panasonic_TF_Resistors.pdf; ComponentLink2Description: Supplier Link 1; ComponentLink2URL: https://factory.macrofab.com/part/MF-RES-0603-220K; Supplier 1: Macrofab; Supplier Part Number 1: MF-RES-0603-220K; Manufacturer Part Number 1: *; Voltage Rating: 75V; Power Rating: 100mW; Tolerance: 5%; Type: Thick Film Resistors General Purpose; Mount: SMD
footprint R0603 (Chip Resistor, 2-Leads, Body 1.60x0.85mm, IPC Medium Density)
pins: 1, 2

## MF-RES-0603-255K
designator R?  Resistance: 255K  (hidden comment: MF-RES-0603-255K)
Resistor Thick Film 0603 255K Ohm 1% 100mW 75V; Manufacturer 1: Panasonic; Value: 255000; Voltage Rating: 50V; Operating Temperature Range: - 55 C to + 155 C; RoHS: Compliant; Package: 0603; ComponentLink1Description: Datasheet; ComponentLink1URL: https://s3.amazonaws.com/devpublic1/datasheets/Panasonic_TF_Resistors.pdf; ComponentLink2Description: Supplier Link 1; ComponentLink2URL: https://factory.macrofab.com/part/MF-RES-0603-255K; Supplier 1: Macrofab; Supplier Part Number 1: MF-RES-0603-255K; Manufacturer Part Number 1: *; Power Rating: 100mW; Tolerance: 1%; Type: Thick Film Resistors General Purpose; Mount: SMD
footprint R0603 (Chip Resistor, 2-Leads, Body 1.60x0.85mm, IPC Medium Density)
pins: 1, 2

## MF-RES-0603-330
designator R?  Resistance: 330R  (hidden comment: MF-RES-0603-330)
Resistor Thick Film 0603 330 Ohm 5% 100mW 75V; Manufacturer 1: Panasonic; Value: 330; Operating Temperature Range: - 55 C to + 155 C; RoHS: Compliant; Package: 0603; ComponentLink1Description: Datasheet; ComponentLink1URL: https://s3.amazonaws.com/devpublic1/datasheets/Panasonic_TF_Resistors.pdf; ComponentLink2Description: Supplier Link 1; ComponentLink2URL: https://factory.macrofab.com/part/MF-RES-0603-330; Supplier 1: Macrofab; Supplier Part Number 1: MF-RES-0603-330; Manufacturer Part Number 1: *; Voltage Rating: 75V; Power Rating: 100mW; Tolerance: 5%; Type: Thick Film Resistors General Purpose; Mount: SMD
footprint R0603 (Chip Resistor, 2-Leads, Body 1.60x0.85mm, IPC Medium Density)
pins: 1, 2

## MF-RES-0603-390
designator R?  Resistance: 390R  (hidden comment: MF-RES-0603-390)
Resistor Thick Film 0603 390 Ohm 5% 100mW 75V; Manufacturer 1: Panasonic; Value: 390; Operating Temperature Range: - 55 C to + 155 C; RoHS: Compliant; Package: 0603; ComponentLink1Description: Datasheet; ComponentLink1URL: https://s3.amazonaws.com/devpublic1/datasheets/Panasonic_TF_Resistors.pdf; ComponentLink2Description: Supplier Link 1; ComponentLink2URL: https://factory.macrofab.com/part/MF-RES-0603-390; Supplier 1: Macrofab; Supplier Part Number 1: MF-RES-0603-390; Manufacturer Part Number 1: *; Voltage Rating: 75V; Power Rating: 100mW; Tolerance: 5%; Type: Thick Film Resistors General Purpose; Mount: SMD
footprint R0603 (Chip Resistor, 2-Leads, Body 1.60x0.85mm, IPC Medium Density)
pins: 1, 2

## MF-RES-0603-470
designator R?  Resistance: 470R  (hidden comment: MF-RES-0603-470)
Resistor Thick Film 0603 470 Ohm 5% 100mW 75V; Manufacturer 1: Panasonic; Value: 470; Operating Temperature Range: - 55 C to + 155 C; RoHS: Compliant; Package: 0603; ComponentLink1Description: Datasheet; ComponentLink1URL: https://s3.amazonaws.com/devpublic1/datasheets/Panasonic_TF_Resistors.pdf; ComponentLink2Description: Supplier Link 1; ComponentLink2URL: https://factory.macrofab.com/part/MF-RES-0603-470; Supplier 1: Macrofab; Supplier Part Number 1: MF-RES-0603-470; Manufacturer Part Number 1: *; Voltage Rating: 75V; Power Rating: 100mW; Tolerance: 5%; Type: Thick Film Resistors General Purpose; Mount: SMD
footprint R0603 (Chip Resistor, 2-Leads, Body 1.60x0.85mm, IPC Medium Density)
pins: 1, 2

## MF-RES-0603-470K
designator R?  Resistance: 470K  (hidden comment: MF-RES-0603-470K)
Resistor Thick Film 0603 470K Ohm 5% 100mW 75V; Manufacturer 1: Panasonic; Value: 470000; Operating Temperature Range: - 55 C to + 155 C; RoHS: Compliant; Package: 0603; ComponentLink1Description: Datasheet; ComponentLink1URL: https://s3.amazonaws.com/devpublic1/datasheets/Panasonic_TF_Resistors.pdf; ComponentLink2Description: Supplier Link 1; ComponentLink2URL: https://factory.macrofab.com/part/MF-RES-0603-470K; Supplier 1: Macrofab; Supplier Part Number 1: MF-RES-0603-470K; Manufacturer Part Number 1: *; Voltage Rating: 75V; Power Rating: 100mW; Tolerance: 5%; Type: Thick Film Resistors General Purpose; Mount: SMD
footprint R0603 (Chip Resistor, 2-Leads, Body 1.60x0.85mm, IPC Medium Density)
pins: 1, 2

## MF-RES-0603-560
designator R?  Resistance: 560R  (hidden comment: MF-RES-0603-560)
Resistor Thick Film 0603 560 Ohm 5% 100mW 75V; Manufacturer 1: Panasonic; Value: 560; Operating Temperature Range: - 55 C to + 155 C; RoHS: Compliant; Package: 0603; ComponentLink1Description: Datasheet; ComponentLink1URL: https://s3.amazonaws.com/devpublic1/datasheets/Panasonic_TF_Resistors.pdf; ComponentLink2Description: Supplier Link 1; ComponentLink2URL: https://factory.macrofab.com/part/MF-RES-0603-560; Supplier 1: Macrofab; Supplier Part Number 1: MF-RES-0603-560; Manufacturer Part Number 1: *; Voltage Rating: 75V; Power Rating: 100mW; Tolerance: 5%; Type: Thick Film Resistors General Purpose; Mount: SMD
footprint R0603 (Chip Resistor, 2-Leads, Body 1.60x0.85mm, IPC Medium Density)
pins: 1, 2

## MF-RES-0603-560K
designator R?  Resistance: 560K  (hidden comment: MF-RES-0603-560K)
Resistor Thick Film 0603 560K Ohm 5% 100mW 75V; Manufacturer 1: Panasonic; Value: 560000; Operating Temperature Range: - 55 C to + 155 C; RoHS: Compliant; Package: 0603; ComponentLink1Description: Datasheet; ComponentLink1URL: https://s3.amazonaws.com/devpublic1/datasheets/Panasonic_TF_Resistors.pdf; ComponentLink2Description: Supplier Link 1; ComponentLink2URL: https://factory.macrofab.com/part/MF-RES-0603-560K; Supplier 1: Macrofab; Supplier Part Number 1: MF-RES-0603-560K; Manufacturer Part Number 1: *; Voltage Rating: 75V; Power Rating: 100mW; Tolerance: 5%; Type: Thick Film Resistors General Purpose; Mount: SMD
footprint R0603 (Chip Resistor, 2-Leads, Body 1.60x0.85mm, IPC Medium Density)
pins: 1, 2

## MF-RES-0603-604K
designator R?  Resistance: 604K  (hidden comment: MF-RES-0603-604K)
Resistor Thick Film 0603 604K Ohm 1% 100mW 75V; Manufacturer 1: Panasonic; Value: 604000; Tolerance: 5%; Operating Temperature Range: - 55 C to + 155 C; RoHS: Compliant; Package: 0603; ComponentLink1Description: Datasheet; ComponentLink1URL: https://factory.macrofab.com/part/://s3.amazonaws.com/mfprodpublic//datasheets/AOA0000CE2.pdf; ComponentLink2Description: Supplier Link 1; ComponentLink2URL: https://factory.macrofab.com/part/MF-RES-0603-604K; Supplier 1: Macrofab; Supplier Part Number 1: MF-RES-0603-604K; Manufacturer Part Number 1: *; Voltage Rating: 75V; Power Rating: 100mW; Type: Thick Film Resistors General Purpose; Mount: SMD
footprint R0603 (Chip Resistor, 2-Leads, Body 1.60x0.85mm, IPC Medium Density)
pins: 1, 2

## MF-RES-0603-680K
designator R?  Resistance: 680K  (hidden comment: MF-RES-0603-680K)
Resistor Thick Film 0603 680K Ohm 5% 100mW 75V; Manufacturer 1: Panasonic; Value: 680000; Operating Temperature Range: - 55 C to + 155 C; RoHS: Compliant; Package: 0603; ComponentLink1Description: Datasheet; ComponentLink1URL: https://s3.amazonaws.com/devpublic1/datasheets/Panasonic_TF_Resistors.pdf; ComponentLink2Description: Supplier Link 1; ComponentLink2URL: https://factory.macrofab.com/part/MF-RES-0603-680K; Supplier 1: Macrofab; Supplier Part Number 1: MF-RES-0603-680K; Manufacturer Part Number 1: *; Voltage Rating: 75V; Power Rating: 100mW; Tolerance: 5%; Type: Thick Film Resistors General Purpose; Mount: SMD
footprint R0603 (Chip Resistor, 2-Leads, Body 1.60x0.85mm, IPC Medium Density)
pins: 1, 2

## MF-RES-0603-750K
designator R?  Resistance: 750K  (hidden comment: MF-RES-0603-750K)
Resistor Thick Film 0603 750K Ohm 5% 100mW 75V; Manufacturer 1: Panasonic; Value: 750000; Operating Temperature Range: - 55 C to + 155 C; RoHS: Compliant; Package: 0603; ComponentLink1Description: Datasheet; ComponentLink1URL: https://s3.amazonaws.com/devpublic1/datasheets/Panasonic_TF_Resistors.pdf; ComponentLink2Description: Supplier Link 1; ComponentLink2URL: https://factory.macrofab.com/part/MF-RES-0603-750K; Supplier 1: Macrofab; Supplier Part Number 1: MF-RES-0603-750K; Manufacturer Part Number 1: *; Voltage Rating: 75V; Power Rating: 100mW; Tolerance: 5%; Type: Thick Film Resistors General Purpose; Mount: SMD
footprint R0603 (Chip Resistor, 2-Leads, Body 1.60x0.85mm, IPC Medium Density)
pins: 1, 2